# EAGLE library part P8X32A-Q44 (library new-pca9306)
Propellor uC
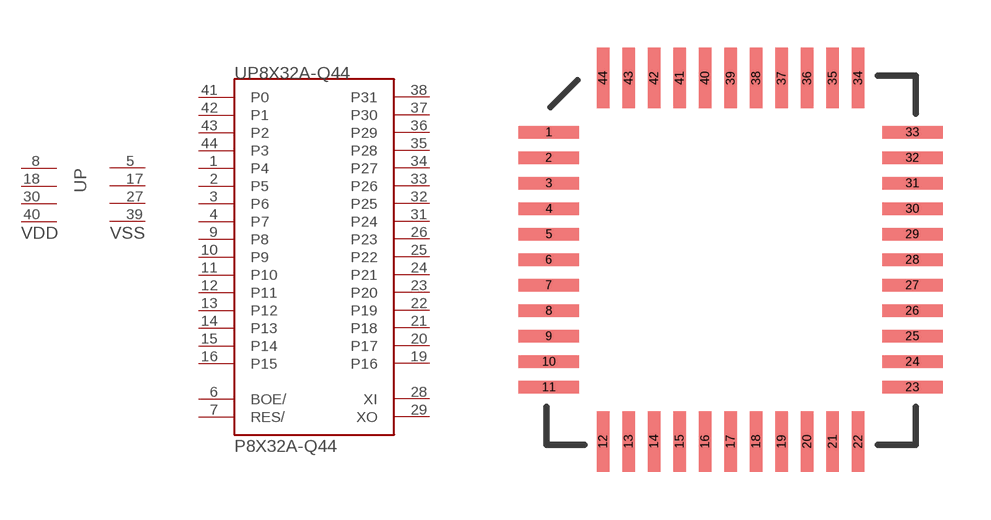
[diagram p95: symbol with the pads of P8X32A-Q44; footprint P8X32A-Q44]

Designator prefix U; gates P=4VDD4VSS P8X32A-Q44=P8X32A

## P8X32A-Q44  [P8X32A-Q44]
1  P8X32A-Q44:P4
2  P8X32A-Q44:P5
3  P8X32A-Q44:P6
4  P8X32A-Q44:P7
5  P:VSS  pwr
6  P8X32A-Q44:BOE/  in
7  P8X32A-Q44:RES/
8  P:VDD  pwr
9  P8X32A-Q44:P8
10  P8X32A-Q44:P9
11  P8X32A-Q44:P10
12  P8X32A-Q44:P11
13  P8X32A-Q44:P12
14  P8X32A-Q44:P13
15  P8X32A-Q44:P14
16  P8X32A-Q44:P15
17  P:VSS  pwr
18  P:VDD  pwr
19  P8X32A-Q44:P16
20  P8X32A-Q44:P17
21  P8X32A-Q44:P18
22  P8X32A-Q44:P19
23  P8X32A-Q44:P20
24  P8X32A-Q44:P21
25  P8X32A-Q44:P22
26  P8X32A-Q44:P23
27  P:VSS  pwr
28  P8X32A-Q44:XI  in
29  P8X32A-Q44:XO  out
30  P:VDD  pwr
31  P8X32A-Q44:P24
32  P8X32A-Q44:P25
33  P8X32A-Q44:P26
34  P8X32A-Q44:P27
35  P8X32A-Q44:P28
36  P8X32A-Q44:P29
37  P8X32A-Q44:P30
38  P8X32A-Q44:P31
39  P:VSS  pwr
40  P:VDD  pwr
41  P8X32A-Q44:P0
42  P8X32A-Q44:P1
43  P8X32A-Q44:P2
44  P8X32A-Q44:P3

## Footprint P8X32A-Q44 (pad centres in mm)
smd 1.9 x 0.4: 1 -5.713,4.013; 2 -5.713,3.212; 3 -5.713,2.413; 4 -5.713,1.613; 5 -5.713,0.812; 6 -5.713,0.013; 7 -5.713,-0.787; 8 -5.713,-1.587; 9 -5.713,-2.388; 10 -5.713,-3.188; 11 -5.713,-3.987; 23 5.688,-3.987; 24 5.688,-3.188; 25 5.688,-2.388; 26 5.688,-1.587; 27 5.688,-0.787; 28 5.688,0.013; 29 5.688,0.812; 30 5.688,1.613; 31 5.688,2.413; 32 5.688,3.212; 33 5.688,4.013
smd 0.4 x 1.9: 12 -4.013,-5.688; 13 -3.212,-5.688; 14 -2.413,-5.688; 15 -1.613,-5.688; 16 -0.812,-5.688; 17 -0.013,-5.688; 18 0.787,-5.688; 19 1.587,-5.688; 20 2.388,-5.688; 21 3.188,-5.688; 22 3.987,-5.688; 34 3.987,5.713; 35 3.188,5.713; 36 2.388,5.713; 37 1.587,5.713; 38 0.787,5.713; 39 -0.013,5.713; 40 -0.812,5.713; 41 -1.613,5.713; 42 -2.413,5.713; 43 -3.212,5.713; 44 -4.013,5.713